# Altium footprint library Ferrites.PcbLib: 33 footprints (part 1 of 3)
Each footprint in its own frame and in the unit in brackets; x right, y up, seen from the top. Pads: shape width x height; smd on the part's side, far side on the other; paste and mask are expansions set on the pad; w line width, h text height; cw(c..) or ccw(c..) is an arc to the next point about the centre after c.
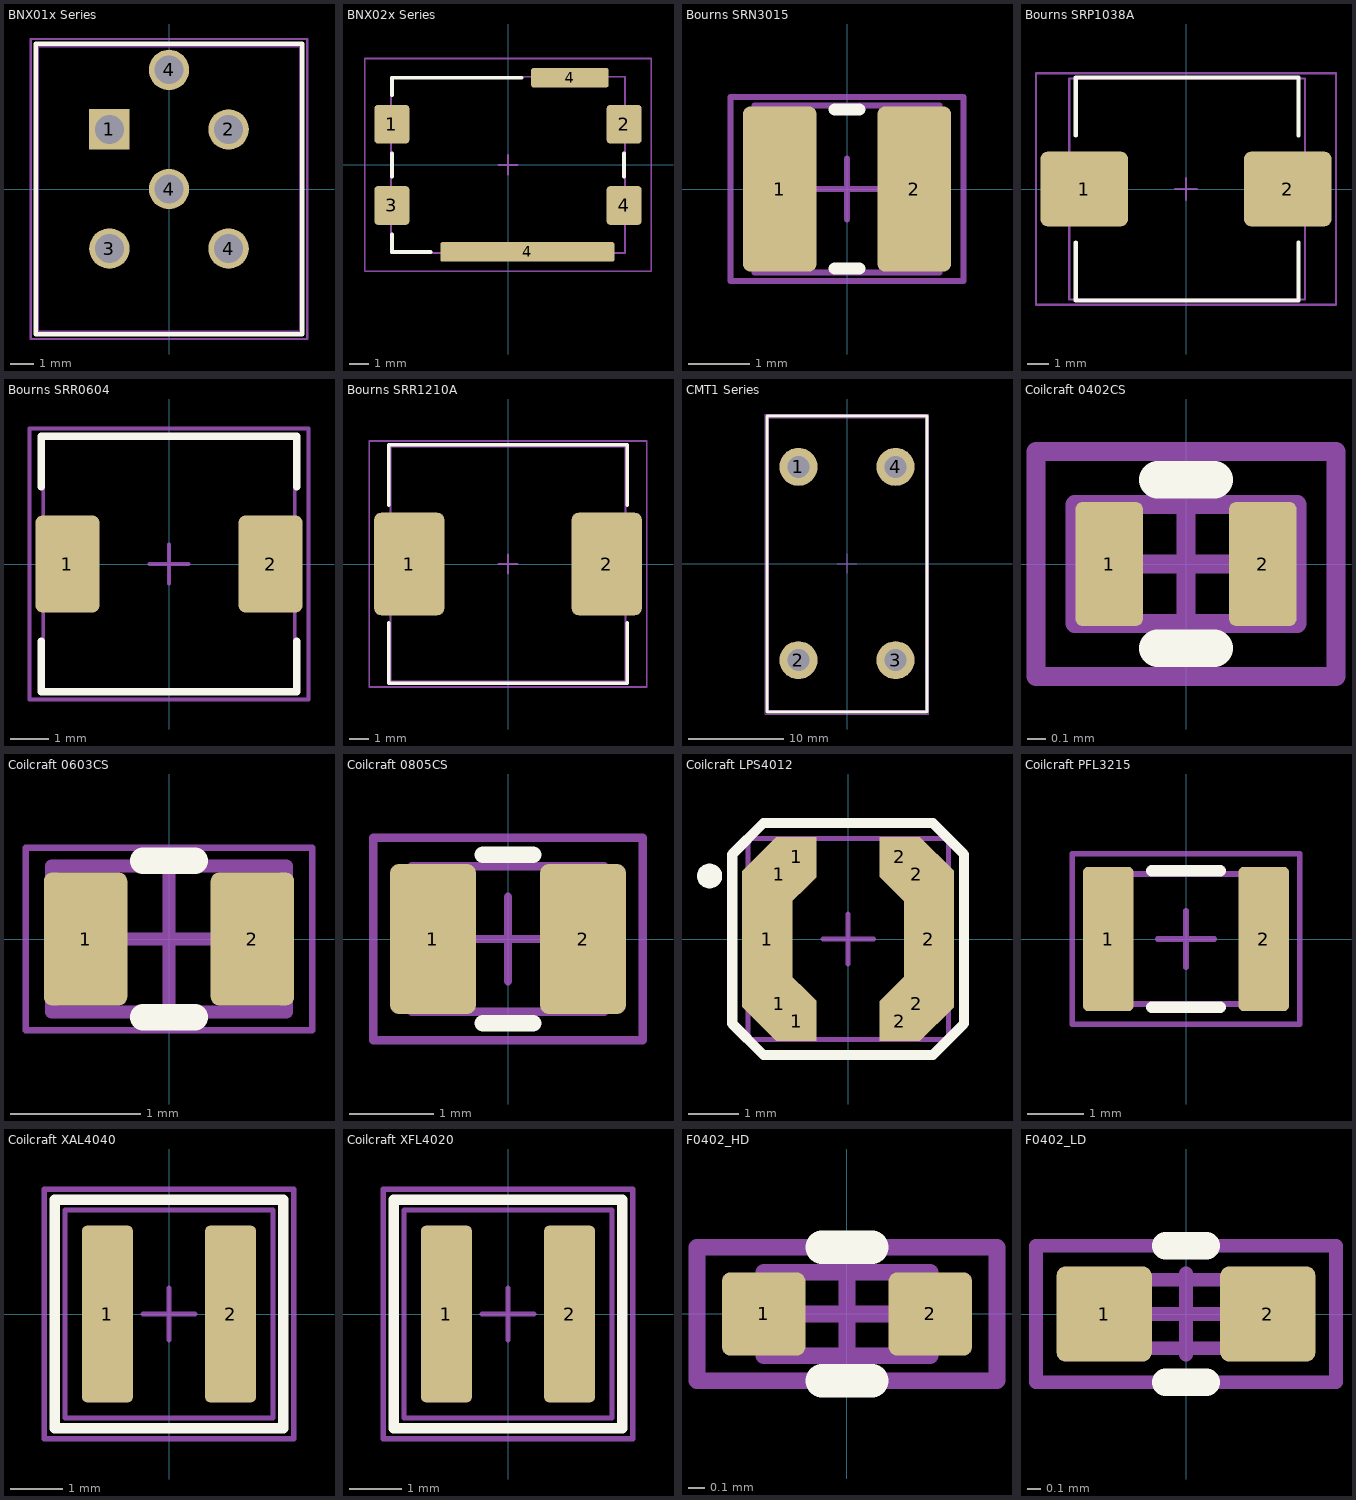
[diagram p0: the footprints below, top view; thin cyan lines are the x and y axes]

## BNX01x Series [mm]
pads (6):
  rect 1.7x1.7 hole 1.2: 1(-2.5,2.5)
  round 1.7 hole 1.2: 2(2.5,2.5) 3(-2.5,-2.5) 4(0,0) 4(0,5) 4(2.5,-2.5)
Top Overlay:
  lines w0.2: -5.6,-6.1 5.6,-6.1 5.6,6.1 -5.6,6.1 -5.6,-6.1
Mechanical 1:
  lines w0.1: -5.5,-6 5.5,-6 5.5,6 -5.5,6 -5.5,-6
Mechanical 15:
  lines w0.1: -0.5,0 0.5,0 ; 0,-0.5 0,0.5 ; -5.8,-6.3 5.8,-6.3 5.8,6.3 -5.8,6.3 -5.8,-6.3
3D body "BNX016-01--3DModel-STEP-1.STEP": height 8.7, standoff -3.8, extent -5.5,-6 5.5,6

## BNX02x Series [mm] "3.1"
height 0.5
pads (6):
  rrect20% 1.8x2 smd: 1(-6,2.1) 2(6,2.1) 3(-6,-2.1) 4(6,-2.1)
  rrect20% 9x1 smd: 4(1,-4.5)
  rrect20% 4x1 smd: 4(3.2,4.5)
Top Overlay:
  lines w0.2: -6,-3.6 -6,-4.5 -4,-4.5 ; -6,-0.6 -6,0.6 ; -6,3.6 -6,4.5 0.7,4.5 ; 6,-0.6 6,0.6
Mechanical 1:
  lines w0.1: -6.05,-4.55 6.05,-4.55 6.05,4.55 -6.05,4.55 -6.05,-4.55
Mechanical 15:
  lines w0.1: -0.5,0 0.5,0 ; 0,-0.5 0,0.5 ; -7.4,-5.5 -7.4,5.5 7.4,5.5 7.4,-5.5 -7.4,-5.5
3D body "Filter_BNX02x.STEP": height 3.1, standoff 0, extent -6.05,-4.55 6.05,4.55

## Bourns SRN3015 [mm]
height 1.5
pads (2):
  rrect20% 1.2x2.7 smd: 1(-1.1,0) 2(1.1,0)
Top Overlay:
  lines w0.2: -0.2,-1.3 0.2,-1.3 ; -0.2,1.3 0.2,1.3
Mechanical 1:
  lines w0.1: -1.51,-1.362 -1.51,1.362 1.51,1.362 1.51,-1.362 -1.51,-1.362
Mechanical 15:
  lines w0.1: -0.5,0 0.5,0 ; 0,-0.5 0,0.5 ; -1.9,-1.5 1.9,-1.5 1.9,1.5 -1.9,1.5 -1.9,-1.5
3D body "L_Bourns_SRN3015.STEP": height 1.49, standoff -0.01, extent -1.51,-1.362 1.51,1.362

## Bourns SRP1038A [mm]
pads (2):
  rrect20% 4.1x3.5 smd: 1(-4.75,0) 2(4.75,0)
Top Overlay:
  lines w0.2: -5.15,-2.5 -5.15,-5.2 5.25,-5.2 5.25,-2.5 ; -5.15,2.5 -5.15,5.2 5.25,5.2 5.25,2.5
Mechanical 13:
  lines w0.1: -5.45,-5.15 -5.45,5.15 5.55,5.15 5.55,-5.15 -5.45,-5.15
Mechanical 15:
  lines w0.1: -0.5,0 0.5,0 ; 0,-0.5 0,0.5 ; -7,-5.4 7,-5.4 7,5.4 -7,5.4 -7,-5.4
3D body "L_Bourns_SRP1038A.step": height 4, standoff 0, extent -5.45,-5.15 5.55,5.15

## Bourns SRR0604 [mm] "Precision Wire Wound Inductor, 2-Leads, Body 6,50x6,50mm, IPC Medium Density"
height 5
pads (2):
  rrect20% 1.65x2.5 smd: 1(-2.625,0) 2(2.625,0)
Top Overlay:
  lines w0.2: -3.3,-2 -3.3,-3.3 3.3,-3.3 3.3,-2 ; -3.3,2 -3.3,3.3 3.3,3.3 3.3,2
Mechanical 1:
  lines w0.1: -3.25,-3.25 3.25,-3.25 3.25,3.25 -3.25,3.25 -3.25,-3.25
Mechanical 15:
  lines w0.1: -0.5,0 0.5,0 ; 0,-0.5 0,0.5 ; -3.6,-3.5 3.6,-3.5 3.6,3.5 -3.6,3.5 -3.6,-3.5
3D body "L_Bourns_SRR0604.STEP": height 4.6, standoff 0, extent -3.25,-3.25 3.25,3.25

## Bourns SRR1210A [mm] "Precision Wire Wound Inductor, 2-Leads, Body 12,00x12,00mm, IPC Medium Density"
height 10
pads (2):
  rrect20% 3.6x5.25 smd: 1(-5.05,0) 2(5.05,0)
Top Overlay:
  lines w0.2: -6.1,-3.025 -6.1,-6.1 6.1,-6.1 6.1,-3.025 ; -6.1,3.025 -6.1,6.1 6.1,6.1 6.1,3.025
Mechanical 1:
  lines w0.1: -6.004,-6 -6.004,6 6.004,6 6.004,-6 -6.004,-6
Mechanical 15:
  lines w0.1: -0.5,0 0.5,0 ; 0,-0.5 0,0.5 ; -7.1,-6.3 7.1,-6.3 7.1,6.3 -7.1,6.3 -7.1,-6.3
3D body "L_Bourns_SRR1210A.step": height 10, standoff 0, extent -6.004,-6 6.004,6

## CMT1 Series [mm]
pads (4):
  round 4 hole 2.32: 1(-5.1,10.15) 2(-5.1,-10.15) 3(5.1,-10.15) 4(5.1,10.15)
Top Overlay:
  lines w0.3: -8.4,-15.6 8.4,-15.6 8.4,15.5 -8.4,15.5 -8.4,-15.6
Mechanical 1:
  lines w0.1: -8.25,-15.4 8.25,-15.4 8.25,15.3 -8.25,15.3 -8.25,-15.4
Mechanical 15:
  lines w0.1: -1,0 1,0 ; 0,-1 0,1 ; -8.6,-15.8 8.6,-15.8 8.6,15.7 -8.6,15.7 -8.6,-15.8
3D body "Coilcraft-CMT1-1_1-15L.STEP": height 31.88, standoff -5.5, extent -8.25,-15.4 8.25,15.3

## Coilcraft 0402CS [mm]
pads (2):
  rrect20% 0.36x0.66 smd: 1(-0.41,0) 2(0.41,0)
Top Overlay:
  lines w0.2: -0.15,-0.45 0.15,-0.45 ; -0.15,0.45 0.15,0.45
Mechanical 1:
  lines w0.1: -0.593,-0.318 0.593,-0.318 0.593,0.318 -0.593,0.318 -0.593,-0.318
Mechanical 15:
  lines w0.1: -0.5,0 0.5,0 ; 0,-0.5 0,0.5 ; -0.8,-0.6 -0.8,0.6 0.8,0.6 0.8,-0.6 -0.8,-0.6
3D body "L_Coilcraft_0402CS.step": height 0.65, standoff -0.01, extent -0.593,-0.318 0.593,0.318

## Coilcraft 0603CS [mm]
pads (2):
  rrect20% 0.64x1.02 smd: 1(-0.64,0) 2(0.64,0)
Top Overlay:
  lines w0.2: -0.2,-0.6 0.2,-0.6 ; -0.2,0.6 0.2,0.6
Mechanical 1:
  lines w0.1: -0.902,-0.561 0.902,-0.561 0.902,0.561 -0.902,0.561 -0.902,-0.561
Mechanical 15:
  lines w0.05: -1.1,-0.7 1.1,-0.7 1.1,0.7 -1.1,0.7 -1.1,-0.7
  lines w0.1: -0.5,0 0.5,0 ; 0,-0.5 0,0.5
3D body "L_Coilcraft_0603CS.step": height 1.01, standoff -0.02, extent -0.902,-0.561 0.902,0.561

## Coilcraft 0805CS [mm]
pads (2):
  rrect20% 1.02x1.78 smd: 1(-0.89,0) 2(0.89,0)
Top Overlay:
  lines w0.2: -0.3,-1 0.3,-1 ; -0.3,1 0.3,1
Mechanical 1:
  lines w0.1: -1.145,-0.862 -1.145,0.862 1.145,0.862 1.145,-0.862 -1.145,-0.862
Mechanical 15:
  lines w0.1: -0.5,0 0.5,0 ; 0,-0.5 0,0.5 ; -1.6,-1.2 1.6,-1.2 1.6,1.2 -1.6,1.2 -1.6,-1.2
3D body "L_Coilcraft_0805CS.step": height 1.51, standoff -0.01, extent -1.145,-0.862 1.145,0.862

## Coilcraft LPS4012 [mm]
pads (11):
  rect 1x2.7 smd mask+0: 1(-1.604,0) 2(1.604,0)
  rect 1.131x0.96 smd rot 45 mask+0: 1(-1.364,-1.29) 2(1.364,1.29)
  rect 1.131x0.96 smd rot 135 mask+0: 1(-1.364,1.29) 2(1.364,-1.29)
  rect 0.8x0.8 smd mask+0: 1(-1.025,-1.629) 1(-1.025,1.629) 2(1.025,-1.629) 2(1.025,1.629)
  round 0.5 on Top Overlay: ""(-2.75,1.25)
Top Overlay:
  lines w0.2: -2.3,-1.68 -2.3,1.68 -1.68,2.3 1.68,2.3 2.3,1.68 2.3,-1.68 1.68,-2.3 -1.68,-2.3 -2.3,-1.68
Mechanical 1:
  lines w0.1: -1.99,-1.99 1.99,-1.99 1.99,1.99 -1.99,1.99 -1.99,-1.99
Mechanical 15:
  lines w0.1: -0.5,0 0.5,0 ; 0,-0.5 0,0.5
3D body "L_Coilcraft_LPS4012.STEP": height 1.1, standoff 0, extent -1.95,-1.95 1.95,1.95

## Coilcraft PFL3215 [mm]
pads (2):
  rrect20% 0.89x2.54 smd: 1(-1.37,0) 2(1.37,0)
Top Overlay:
  lines w0.2: -0.6,-1.2 0.6,-1.2 ; -0.6,1.2 0.6,1.2
Mechanical 1:
  lines w0.1: -1.6,-1.143 1.6,-1.143 1.6,1.143 -1.6,1.143 -1.6,-1.143
Mechanical 15:
  lines w0.1: -0.5,0 0.5,0 ; 0,-0.5 0,0.5 ; -2,-1.5 2,-1.5 2,1.5 -2,1.5 -2,-1.5
3D body "Coilcraft-PFL3215.step": height 1.49, standoff -0.01, extent -1.6,-1.143 1.6,1.143

## Coilcraft XAL4040 [mm]
pads (2):
  rrect20% 0.98x3.4 smd: 1(-1.185,0) 2(1.185,0)
Top Overlay:
  lines w0.2: -2.2,-2.2 2.2,-2.2 2.2,2.2 -2.2,2.2 -2.2,-2.2
Mechanical 1:
  lines w0.1: -2,-2 2,-2 2,2 -2,2 -2,-2
Mechanical 15:
  lines w0.1: -0.5,0 0.5,0 ; 0,-0.5 0,0.5 ; -2.4,-2.4 2.4,-2.4 2.4,2.4 -2.4,2.4 -2.4,-2.4
3D body "L_Coilcraft_XAL4040.STEP": height 4.1, standoff 0, extent -2,-2 2,2

## Coilcraft XFL4020 [mm]
pads (2):
  rrect20% 0.98x3.4 smd: 1(-1.185,0) 2(1.185,0)
Top Overlay:
  lines w0.2: -2.2,-2.2 -2.2,2.2 2.2,2.2 2.2,-2.2 -2.2,-2.2
Mechanical 1:
  lines w0.1: -2,-2 -2,2 2,2 2,-2 -2,-2
Mechanical 15:
  lines w0.1: -0.5,0 0.5,0 ; 0,-0.5 0,0.5 ; -2.4,-2.4 -2.4,2.4 2.4,2.4 2.4,-2.4 -2.4,-2.4
3D body "L_Coilcraft_XFL4020.STEP": height 2.1, standoff 0, extent -2,-2 2,2

## F0402_HD [mm] "Chip Ferrite bead, 2-Leads, Body 1.0x0.5mm, IPC High Density"
height 0.5
pads (2):
  rrect20% 0.5x0.5 smd: 1(-0.5,0) 2(0.5,0)
Top Overlay:
  lines w0.2: -0.15,-0.4 0.15,-0.4 ; -0.15,0.4 0.15,0.4
Mechanical 1:
  lines w0.1: -0.5,-0.25 -0.5,0.25 0.5,0.25 0.5,-0.25 -0.5,-0.25
Mechanical 15:
  lines w0.1: -0.3,0 0.3,0 ; 0,-0.3 0,0.3 ; -0.9,-0.4 -0.9,0.4 0.9,0.4 0.9,-0.4 -0.9,-0.4
3D body "L_0402_1005Metric.step": height 0.5, standoff 0, extent -0.5,-0.25 0.5,0.25

## F0402_LD [mm] "Chip Ferrite bead, 2-Leads, Body 1.0x0.5mm, IPC Low Density"
height 0.5
pads (2):
  rrect20% 0.7x0.7 smd: 1(-0.6,0) 2(0.6,0)
Top Overlay:
  lines w0.2: -0.15,-0.5 0.15,-0.5 ; -0.15,0.5 0.15,0.5
Mechanical 1:
  lines w0.1: -0.5,-0.25 0.5,-0.25 0.5,0.25 -0.5,0.25 -0.5,-0.25
Mechanical 15:
  lines w0.1: -0.3,0 0.3,0 ; 0,-0.3 0,0.3 ; -1.1,-0.5 -1.1,0.5 1.1,0.5 1.1,-0.5 -1.1,-0.5
3D body "L_0402_1005Metric.step": height 0.5, standoff 0, extent -0.5,-0.25 0.5,0.25